# EAGLE library part STELLARIS_LAUNCHPAD_BLIZZARD_XL_HEADERS (library AustinBlackstoneEngineeringPublic)
Headers for Blizzard Chipline Stellaris Launchpad XL Booster Packs. Compatible with the EK-LM4F120XL and EK-TM4C123GXL Launchpads. This header can be used to set the headers correctly spaced. The rest of the board should be based around these headers headers that fit these can be ordered from Samtec.com Part Number SSW-110-23-S-D
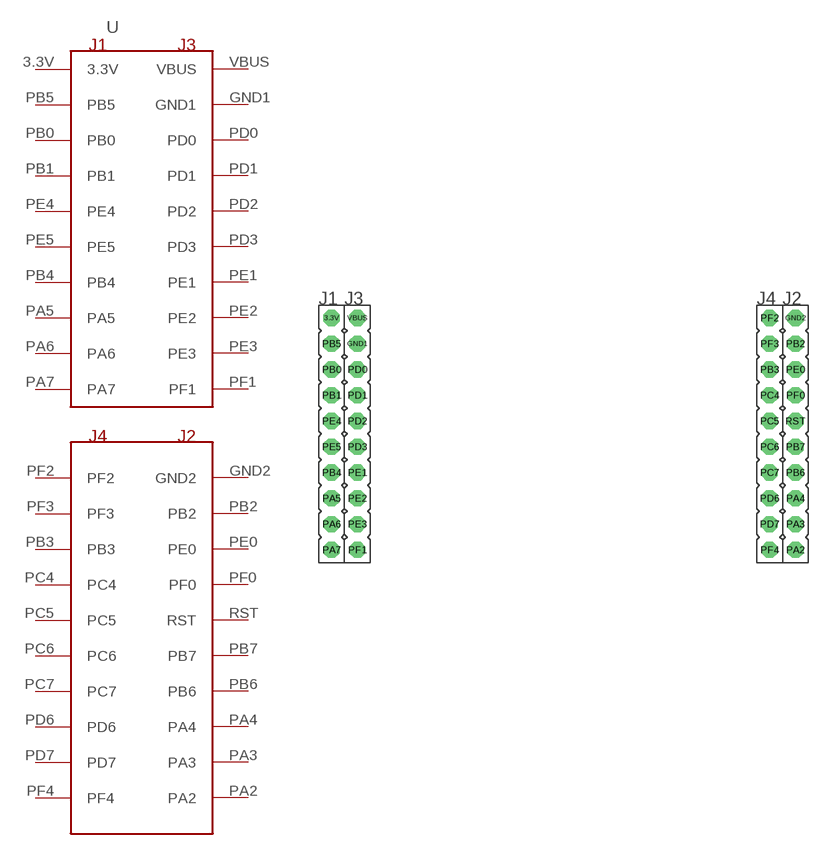
[diagram p0: symbol with the pads of STELLARISLAUNCHPADHEADERS; footprint STELLARISLAUNCHPADHEADERS]

Designator prefix -

## STELLARIS_LAUNCHPAD_BLIZZARD_XL_HEADERS  [STELLARISLAUNCHPADHEADERS]
3.3V  3.3V  pwr
GND1  GND1
GND2  GND2  pwr
PA2  PA2
PA3  PA3
PA4  PA4
PA5  PA5
PA6  PA6
PA7  PA7
PB0  PB0
PB1  PB1
PB2  PB2
PB3  PB3
PB4  PB4
PB5  PB5
PB6  PB6
PB7  PB7
PC4  PC4
PC5  PC5
PC6  PC6
PC7  PC7
PD0  PD0
PD1  PD1
PD2  PD2
PD3  PD3
PD6  PD6
PD7  PD7
PE0  PE0
PE1  PE1
PE2  PE2
PE3  PE3
PE4  PE4
PE5  PE5
PF0  PF0
PF1  PF1
PF2  PF2
PF3  PF3
PF4  PF4
RST  RST  pwr
VBUS  VBUS  pwr

## Footprint STELLARISLAUNCHPADHEADERS (pad centres in mm)
2 sets of 2x10 100mil .1" headers spaced for stellaris launchpad boosterpack pins named for EK-LM4F120XL board (aka EK-TM4C123GXL)
drill 0.914 pad 1.6 octagon: 3.3V -22.86,13.97; GND1 -20.32,11.43; GND2 22.86,13.97; PA2 22.86,-8.89; PA3 22.86,-6.35; PA4 22.86,-3.81; PA5 -22.86,-3.81; PA6 -22.86,-6.35; PA7 -22.86,-8.89; PB0 -22.86,8.89; PB1 -22.86,6.35; PB2 22.86,11.43; PB3 20.32,8.89; PB4 -22.86,-1.27; PB5 -22.86,11.43; PB6 22.86,-1.27; PB7 22.86,1.27; PC4 20.32,6.35; PC5 20.32,3.81; PC6 20.32,1.27; PC7 20.32,-1.27; PD0 -20.32,8.89; PD1 -20.32,6.35; PD2 -20.32,3.81; PD3 -20.32,1.27; PD6 20.32,-3.81; PD7 20.32,-6.35; PE0 22.86,8.89; PE1 -20.32,-1.27; PE2 -20.32,-3.81; PE3 -20.32,-6.35; PE4 -22.86,3.81; PE5 -22.86,1.27; PF0 22.86,6.35; PF1 -20.32,-8.89; PF2 20.32,13.97; PF3 20.32,11.43; PF4 20.32,-8.89; RST 22.86,3.81; VBUS -20.32,13.97